# Altium footprint library sharing.PcbLib: 40 footprints (part 1 of 3)
Each footprint in its own frame and in the unit in brackets; x right, y up, seen from the top. Pads: shape width x height; smd on the part's side, far side on the other; paste and mask are expansions set on the pad; w line width, h text height; cw(c..) or ccw(c..) is an arc to the next point about the centre after c.
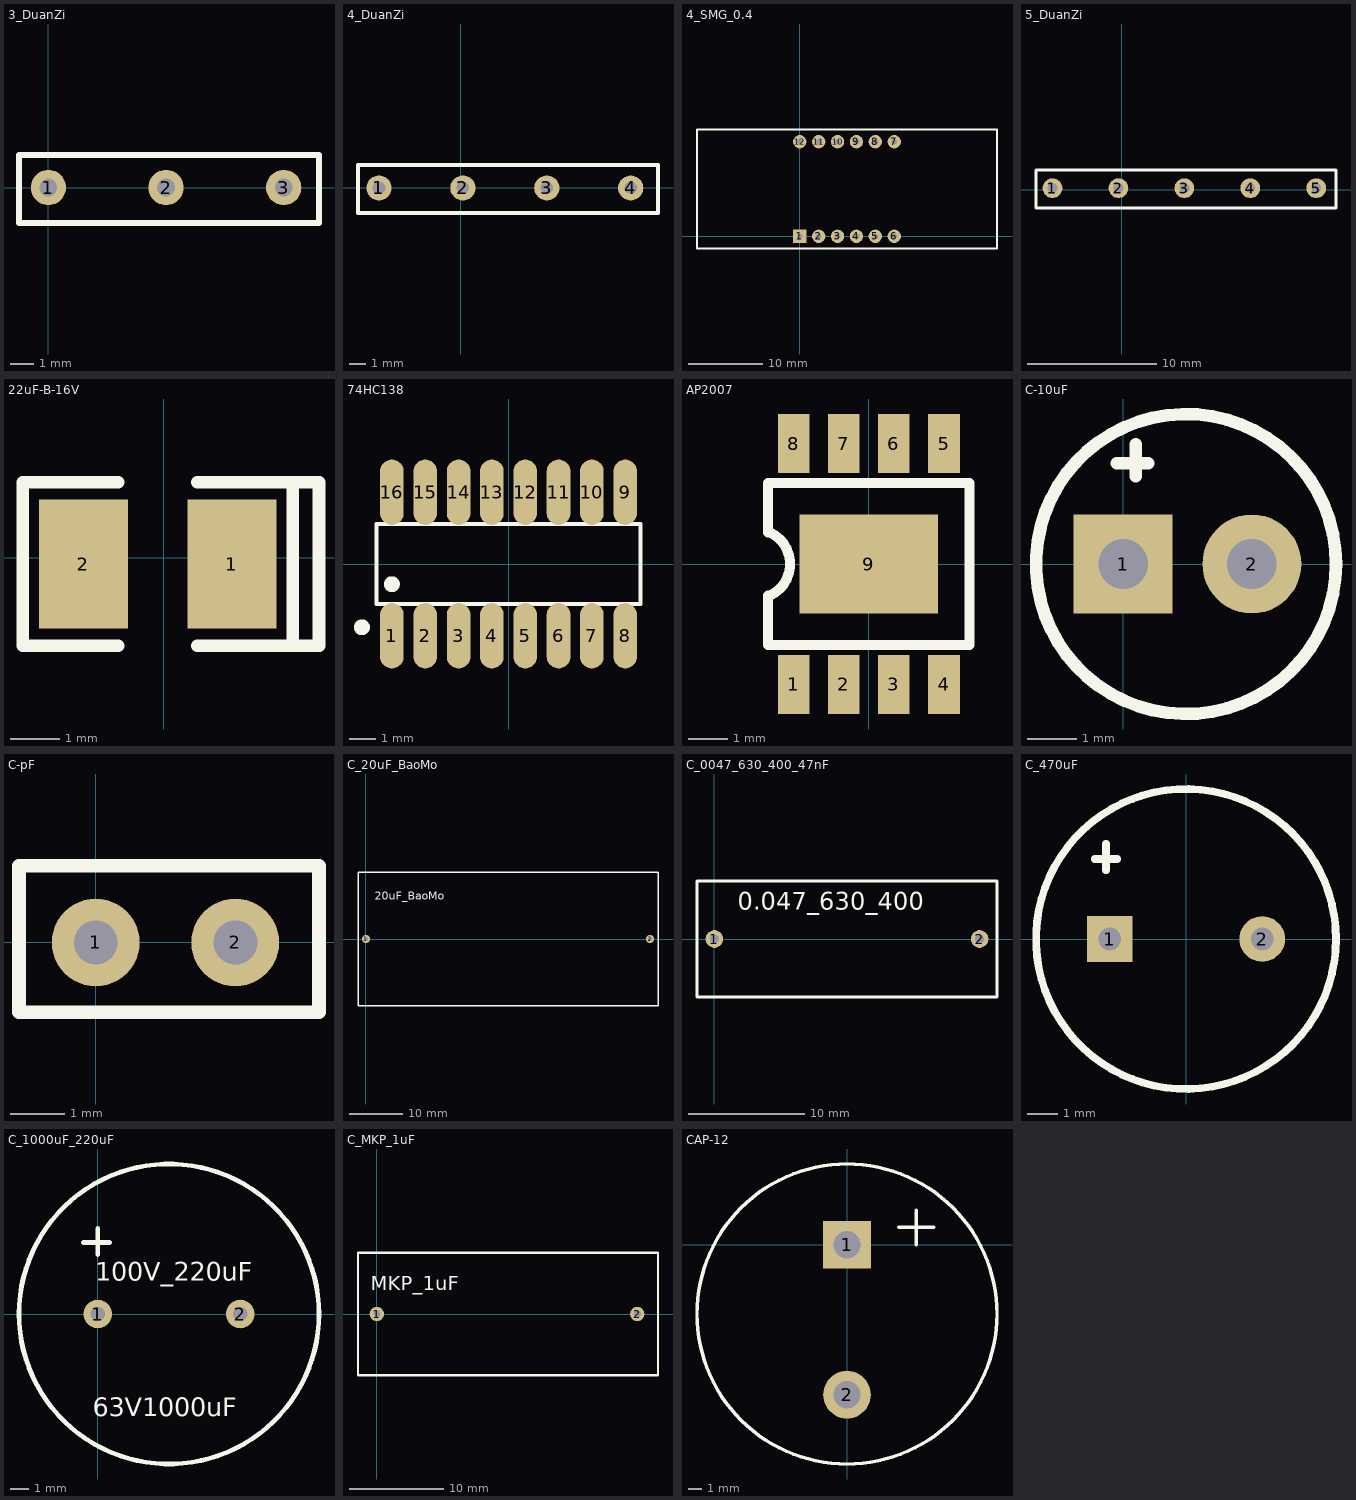
[diagram p0: the footprints below, top view; thin cyan lines are the x and y axes]

## 3_DuanZi [mil]
pads (3):
  round 60 hole 30: 1(0,0) 2(200,0) 3(400,0)
Top Overlay:
  lines w10: -50,-60 -50,55 460,55 460,-60 -50,-60

## 4_DuanZi [mil]
pads (4):
  round 60 hole 30: 1(-195,0) 2(5,0) 3(205,0) 4(405,0)
Top Overlay:
  lines w10: -245,-60 -245,55 470,55 470,-60 -245,-60

## 4_SMG_0.4 [mm]
pads (12):
  rect 1.8x1.8 hole 0.8: 1(0,0)
  round 1.8 hole 0.8: 2(2.54,0) 3(5.08,0) 4(7.62,0) 5(10.16,0) 6(12.7,0) 7(12.7,12.7) 8(10.16,12.7) 9(7.62,12.7) 10(5.08,12.7) 11(2.54,12.7) 12(0,12.7)
Top Overlay:
  lines w0.254: -13.8,-1.65 26.5,-1.65 26.5,14.35 -13.8,14.35 -13.8,-1.65

## 5_DuanZi [mil]
pads (5):
  round 60 hole 30: 1(-210,5) 2(-10,5) 3(190,5) 4(390,5) 5(590,5)
Top Overlay:
  lines w10: -260,-55 -260,60 650,60 650,-55 -260,-55

## 22uF-B-16V [mil]
pads (2):
  rect 70.86x102.36 smd: 1(54.1,-5) 2(-64.1,-5)
Top Overlay:
  lines w10: -36.5,-69.96 -112.36,-69.96 -112.36,59.96 -36.5,59.96 ; 26.5,-69.96 102.36,-69.96 ; 26.5,59.96 102.36,59.96 ; 102.36,-69.96 102.36,59.96 ; 102.36,-69.96 123.36,-69.96 123.36,59.96 102.36,59.96

## 74HC138 [mm]
pads (16):
  oval 0.9x2.5 smd: 1(-4.445,-2.736) 2(-3.175,-2.736) 3(-1.905,-2.736) 4(-0.635,-2.736) 5(0.635,-2.736) 6(1.905,-2.736) 7(3.175,-2.736) 8(4.445,-2.736) 9(4.445,2.736) 10(3.175,2.736) 11(1.905,2.736) 12(0.635,2.736) 13(-0.635,2.736) 14(-1.905,2.736) 15(-3.175,2.736) 16(-4.445,2.736)
Top Overlay:
  circle w0.3: c-5.588,-2.413 r0.15
  circle w0.3: c-4.445,-0.769 r0.15
  lines w0.152: -5.026,-1.521 5.026,-1.521 5.026,1.521 -5.026,1.521 -5.026,-1.521
Mechanical 5:
  pour cut-out: 4.23,2.31 4.23,1.94 4.66,1.94 4.66,2.31
  pour cut-out: 2.96,2.31 2.96,1.94 3.39,1.94 3.39,2.31
  pour cut-out: 1.69,2.31 1.69,1.94 2.12,1.94 2.12,2.31
  pour cut-out: 0.42,2.31 0.42,1.94 0.85,1.94 0.85,2.31
  pour cut-out: -0.85,2.31 -0.85,1.94 -0.42,1.94 -0.42,2.31
  pour cut-out: -2.12,2.31 -2.12,1.94 -1.69,1.94 -1.69,2.31
  pour cut-out: -3.39,2.31 -3.39,1.94 -2.96,1.94 -2.96,2.31
  pour cut-out: -4.66,2.31 -4.66,1.94 -4.23,1.94 -4.23,2.31
  pour cut-out: 4.23,-2.31 4.23,-1.94 4.66,-1.94 4.66,-2.31
  pour cut-out: 2.96,-2.31 2.96,-1.94 3.39,-1.94 3.39,-2.31
  pour cut-out: 1.69,-2.31 1.69,-1.94 2.12,-1.94 2.12,-2.31
  pour cut-out: 0.42,-2.31 0.42,-1.94 0.85,-1.94 0.85,-2.31
  pour cut-out: -0.85,-2.31 -0.85,-1.94 -0.42,-1.94 -0.42,-2.31
  pour cut-out: -2.12,-2.31 -2.12,-1.94 -1.69,-1.94 -1.69,-2.31
  pour cut-out: -3.39,-2.31 -3.39,-1.94 -2.96,-1.94 -2.96,-2.31
  pour cut-out: -4.66,-2.31 -4.66,-1.94 -4.23,-1.94 -4.23,-2.31
Mechanical 15:
  circle w0.3: c-4.445,-3.4 r0.15

## 74HC138D [mm]

## AP2007 [mm]
pads (9):
  rect 0.8x1.5 smd: 1(-1.905,-3.048) 2(-0.635,-3.048) 3(0.635,-3.048) 4(1.905,-3.048) 5(1.905,3.048) 6(0.635,3.048) 7(-0.635,3.048) 8(-1.905,3.048)
  rect 3.5x2.5 smd: 9(0,0)
Top Overlay:
  lines w0.254: -2.55,-0.8 -2.55,-2.05 2.55,-2.05 2.55,2.05 -2.55,2.05 -2.55,0.8 ; -2.5,-0.8 ccw(c-2.875,0) -2.5,0.8

## C-10uF [mm]
pads (2):
  rect 2x2 hole 1: 1(0,0)
  round 2 hole 1: 2(2.6,0)
Top Overlay:
  circle w0.254: c1.27,0 r3.029
  lines w0.254: -0.127,2.032 0.508,2.032 ; 0.254,1.778 0.254,2.413

## C-pF [mm]
pads (2):
  round 1.6 hole 0.8 unplated: 1(0,0) 2(2.54,0)
Top Overlay:
  lines w0.254: -1.397,-1.27 -1.397,1.397 4.064,1.397 4.064,-1.27 -1.397,-1.27

## C_20uF_BaoMo [mil]
pads (2):
  round 60 hole 30: 1(0,0) 2(2100,0)
Top Overlay:
  lines w10: -59.06,-492.13 -59.06,492.13 2159.06,492.13 2159.06,-492.13 -59.06,-492.13
  text "20uF_BaoMo" at 65,290 h60

## C_0047_630_400_47nF [mil]
pads (2):
  round 60 hole 30: 1(0,0) 2(900,0)
Top Overlay:
  lines w10: -59.06,-196.85 959.06,-196.85 959.06,196.85 -59.06,196.85 -59.06,-196.85
  text "0.047_630_400" at 80,100 h60

## C_470uF [mil]
pads (2):
  rect 60x60 hole 30: 1(-100,0)
  round 60 hole 30: 2(100,0)
Top Overlay:
  circle w10: c0,0 r196.85
  lines w10: -120,105 -90,105 ; -105,90 -105,125

## C_1000uF_220uF [mil]
pads (2):
  round 60 hole 30: 1(0,0) 2(299.21,0)
Top Overlay:
  circle w10: c149.61,0 r314.96
  lines w10: -30,150 25,150 ; 0,125 0,180
  text "100V_220uF" at -5,70 h39.37
  text "63V1000uF" at -10,-215 h39.37

## C_MKP_1uF [mil]
pads (2):
  round 60 hole 30: 1(0,0) 2(1086.61,0)
Top Overlay:
  lines w10: -78.74,-255.91 1173.23,-255.91 1173.23,255.91 -78.74,255.91 -78.74,-255.91
  text "MKP_1uF" at -25,100 h60

## CAP-12 [mm]
pads (2):
  rect 3.5x3.5 hole 2: 1(0,0)
  round 3.5 hole 2: 2(0,-11)
Top Overlay:
  circle w0.254: c0,-5.08 r11
  lines w0.254: 3.81,1.27 5.08,1.27 6.35,1.27 ; 5.08,0 5.08,2.54